# Altium schematic symbol library NEXTION.SchLib: 1 symbol
Pins are listed as number, name and electrical type; pins without a type are passive.

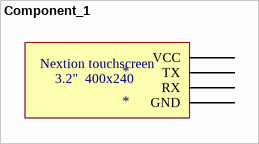
[diagram p0: symbol Component_1]

## Component_1
designator *
pins: 1 VCC, 2 TX, 3 RX, 4 GND
text: Nextion touchscreen; 3.2"  400x240